# EAGLE library part MZPA92* (library rele)
RELAY
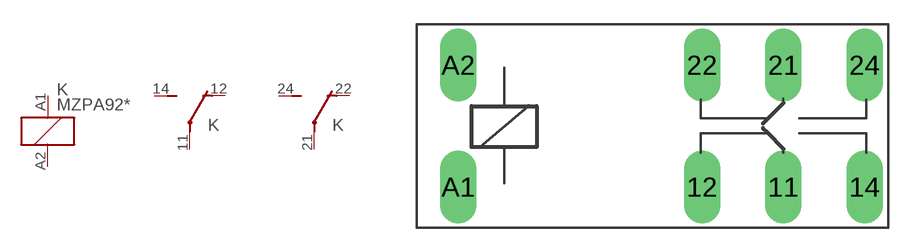
[diagram p18: symbol with the pads of MZPA92; footprint MZPA92]

Designator prefix K; gates G$1=K G$2=U G$3=U

## MZPA9205, MZPA9212, MZPA9224  [MZPA92]
11  G$2:P  pas
12  G$2:O  pas
14  G$2:S  pas
21  G$3:P  pas
22  G$3:O  pas
24  G$3:S  pas
A1  G$1:1  pas
A2  G$1:2  pas

## Footprint MZPA92 (pad centres in mm)
RELAY
drill 1.5 long: 11 8.05,-3.75; 12 3.05,-3.75; 14 13.05,-3.75; 21 8.05,3.75; 22 3.05,3.75; 24 13.05,3.75; A1 -11.95,-3.75; A2 -11.95,3.75